# EAGLE library part MAX707 (library Traficon)
WATCHDOG
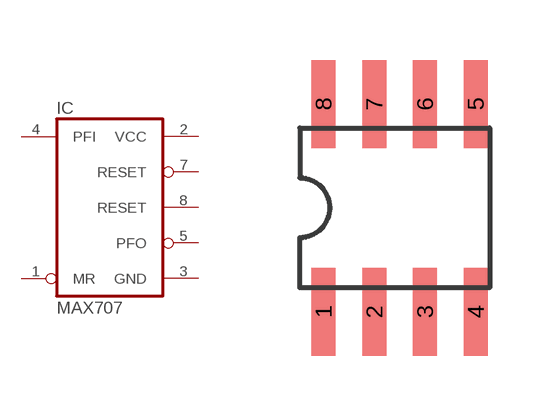
[diagram p145: symbol with the pads of SOIC8; footprint SOIC8]

Designator prefix IC

## MAX707ESA  [SOIC8]
1  MR  in
2  VCC  pwr
3  GND  pwr
4  PFI  in
5  PFO  out
7  RESET  out
8  RESET  out

## Footprint SOIC8 (pad centres in mm)
Small Outline IC
smd 0.6 x 2.2: 1 -1.905,-2.6; 2 -0.635,-2.6; 3 0.635,-2.6; 4 1.905,-2.6; 5 1.905,2.6; 6 0.635,2.6; 7 -0.635,2.6; 8 -1.905,2.6